# EAGLE library part ADCMP562 (library fcounter)
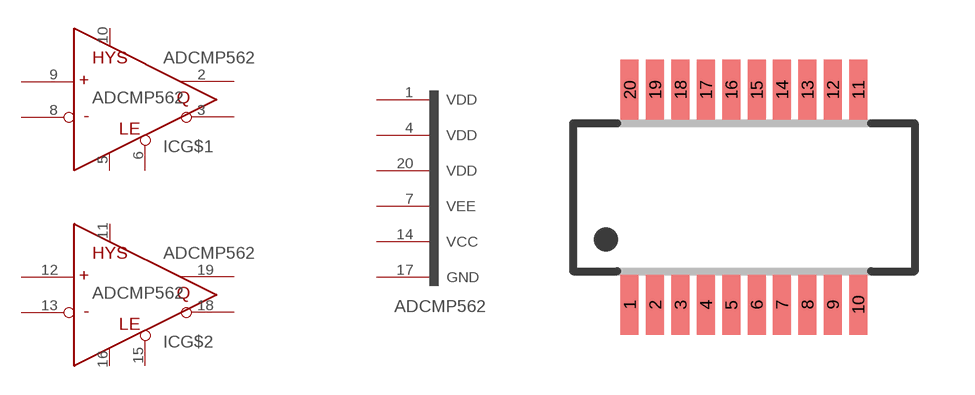
[diagram p0: symbol with the pads of QSOP20; footprint QSOP20]

Designator prefix IC; gates G$1=ADCMP562 G$2=ADCMP562 G$3=ADCPM562PWR

## ADCMP562  [QSOP20]
1  G$3:VDD  pwr
2  G$1:+OUT  out
3  G$1:-OUT  out
4  G$3:VDD  pwr
5  G$1:+LE  in
6  G$1:-LE  in
7  G$3:VEE  pwr
8  G$1:-IN  in
9  G$1:+IN  in
10  G$1:HYS  in
11  G$2:HYS  in
12  G$2:+IN  in
13  G$2:-IN  in
14  G$3:VCC  pwr
15  G$2:-LE  in
16  G$2:+LE  in
17  G$3:GND  pwr
18  G$2:-OUT  out
19  G$2:+OUT  out
20  G$3:VDD  pwr

## Footprint QSOP20 (pad centres in mm)
smd 0.45 x 1.5: 1 -2.857,-2.69; 2 -2.223,-2.69; 3 -1.587,-2.69; 4 -0.953,-2.69; 5 -0.318,-2.69; 6 0.318,-2.69; 7 0.953,-2.69; 8 1.587,-2.69; 9 2.223,-2.69; 10 2.857,-2.69; 11 2.857,2.69; 12 2.223,2.69; 13 1.587,2.69; 14 0.953,2.69; 15 0.318,2.69; 16 -0.318,2.69; 17 -0.953,2.69; 18 -1.587,2.69; 19 -2.223,2.69; 20 -2.857,2.69